# Altium footprint library WE-SI.PcbLib: 34 footprints (part 2 of 3)
Each footprint in its own frame and in the unit in brackets; x right, y up, seen from the top. Pads: shape width x height; smd on the part's side, far side on the other; paste and mask are expansions set on the pad; w line width, h text height; cw(c..) or ccw(c..) is an arc to the next point about the centre after c.
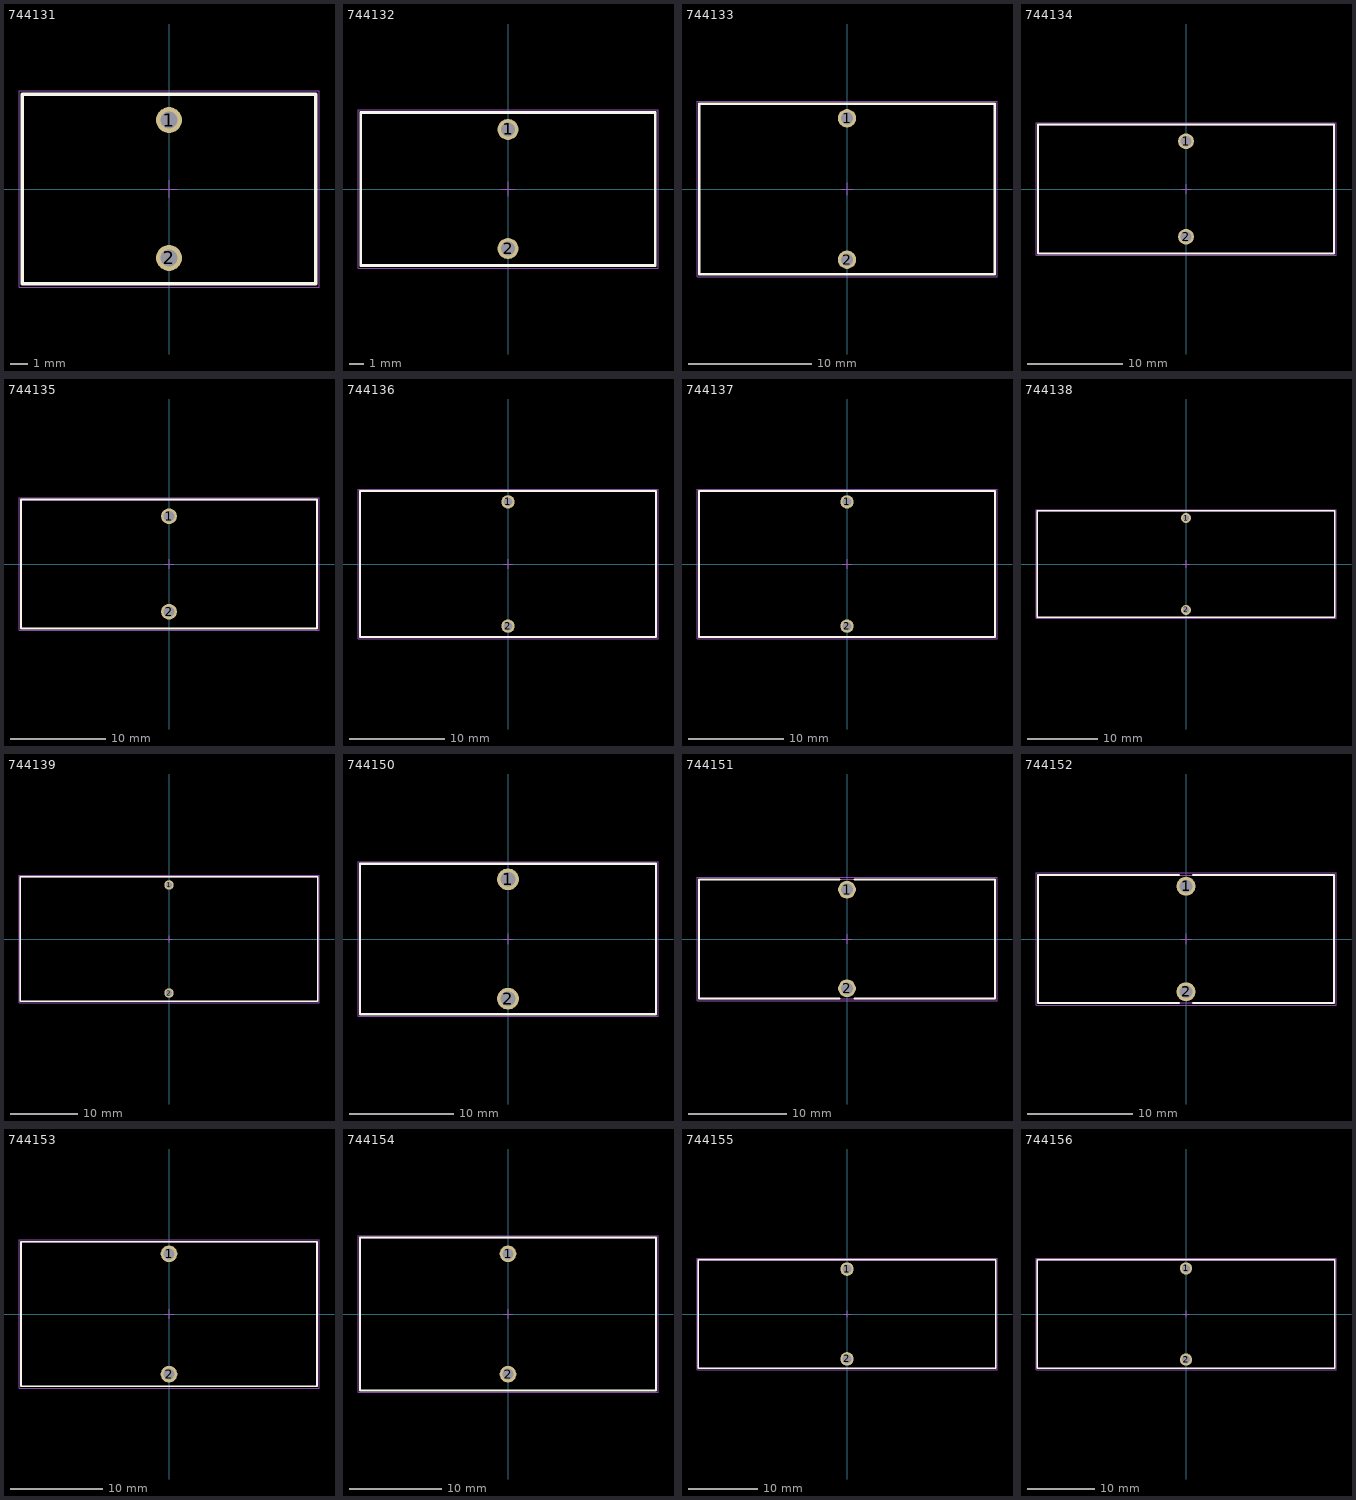
[diagram p1: the footprints below, top view; thin cyan lines are the x and y axes]

## 744131 [mm] "THT Leaded Toroidal Storage Choke, body 17x11mm"
height 17
pads (2):
  round 1.5 hole 1: 1(0,4) 2(0,-4)
Top Overlay:
  lines w0.2: -8.5,-5.5 8.5,-5.5 8.5,5.5 -8.5,5.5 -8.5,-5.5
Top Designator:
  text ".Designator" at -7.498,-0.5 h1.5
Top Component Outline:
  lines w0.1: -8.5,-5.5 8.5,-5.5 8.5,5.5 -8.5,5.5 -8.5,-5.5
Top 3D Body:
  lines w0.1: -8.5,-5.5 -8.5,5.5 8.5,5.5 8.5,-5.5 -8.5,-5.5
Top Courtyard:
  lines w0.05: -0.5,0 0.5,0 ; 0,-0.5 0,0.5 ; -8.7,-5.7 8.7,-5.7 8.7,5.7 -8.7,5.7 -8.7,-5.7
3D body "744131.stp": height 14.26, standoff -11.92, extent -7.26,-4.399 7.26,4.399

## 744132 [mm] "THT Leaded Toroidal Storage Choke, body 21x10.9mm"
height 21
pads (2):
  round 1.5 hole 1: 1(0,4.25) 2(0,-4.25)
Top Overlay:
  lines w0.2: -10.5,-5.45 -10.5,5.45 10.5,5.45 10.5,-5.45 -10.5,-5.45
Top Designator:
  text ".Designator" at -7.498,-0.5 h1.5
Top Component Outline:
  lines w0.1: -10.5,-5.45 10.5,-5.45 10.5,5.45 -10.5,5.45 -10.5,-5.45
Top 3D Body:
  lines w0.1: -10.5,-5.45 -10.5,5.45 10.5,5.45 10.5,-5.45 -10.5,-5.45
Top Courtyard:
  lines w0.05: -0.5,0 0.5,0 ; 0,-0.5 0,0.5 ; -10.7,-5.65 10.7,-5.65 10.7,5.65 -10.7,5.65 -10.7,-5.65
3D body "744132.stp": height 18.91, standoff -11.96, extent -9.658,-4.649 9.659,4.649

## 744133 [mm] "THT Leaded Toroidal Storage Choke, body 24x13mm"
height 24
pads (2):
  round 1.5 hole 1: 1(0,5.75) 2(0,-5.75)
Top Overlay:
  lines w0.2: -12,-6.95 -12,6.95 12,6.95 12,-6.95 -12,-6.95
Top Designator:
  text ".Designator" at -7.498,-0.5 h1.5
Top Component Outline:
  lines w0.1: -12,-6.95 -12,6.95 12,6.95 12,-6.95 -12,-6.95
Top 3D Body:
  lines w0.1: -12,-6.95 12,-6.95 12,6.95 -12,6.95 -12,-6.95
Top Courtyard:
  lines w0.05: -0.5,0 0.5,0 ; 0,-0.5 0,0.5 ; -12.2,-7.15 -12.2,7.15 12.2,7.15 12.2,-7.15 -12.2,-7.15
3D body "744133.stp": height 21.81, standoff -11.85, extent -11.01,-6.149 11.01,6.149

## 744134 [mm] "THT Leaded Toroidal Storage Choke, body 31x13.5mm"
height 31
pads (2):
  round 1.65 hole 1.1: 1(0,5) 2(0,-5)
Top Overlay:
  lines w0.2: -15.5,-6.75 15.5,-6.75 15.5,6.75 -15.5,6.75 -15.5,-6.75
Top Designator:
  text ".Designator" at -7.498,-0.5 h1.5
Top Component Outline:
  lines w0.1: -15.5,-6.75 15.5,-6.75 15.5,6.75 -15.5,6.75 -15.5,-6.75
Top 3D Body:
  lines w0.1: -15.5,-6.75 -15.5,6.75 15.5,6.75 15.5,-6.75 -15.5,-6.75
Top Courtyard:
  lines w0.05: -0.5,0 0.5,0 ; 0,-0.5 0,0.5 ; -15.7,-6.95 15.7,-6.95 15.7,6.95 -15.7,6.95 -15.7,-6.95
3D body "744134.stp": height 25.56, standoff -11.93, extent -12.959,-5.449 12.959,5.449

## 744135 [mm] "THT Leaded Toroidal Storage Choke, body 31x13.5mm"
height 31
pads (2):
  round 1.65 hole 1.1: 1(0,5) 2(0,-5)
Top Overlay:
  lines w0.2: -15.5,-6.75 -15.5,6.75 15.5,6.75 15.5,-6.75 -15.5,-6.75
Top Designator:
  text ".Designator" at -7.498,-0.5 h1.5
Top Component Outline:
  lines w0.1: -15.5,-6.75 -15.5,6.75 15.5,6.75 15.5,-6.75 -15.5,-6.75
Top 3D Body:
  lines w0.1: -15.5,-6.75 15.5,-6.75 15.5,6.75 -15.5,6.75 -15.5,-6.75
Top Courtyard:
  lines w0.05: -0.5,0 0.5,0 ; 0,-0.5 0,0.5 ; -15.7,-6.95 -15.7,6.95 15.7,6.95 15.7,-6.95 -15.7,-6.95
3D body "744135.stp": height 25.56, standoff -11.93, extent -12.959,-5.449 12.959,5.449

## 744136 [mm] "THT Leaded Toroidal Storage Choke, body 31x15.3mm"
height 31
pads (2):
  round 1.4 hole 0.9: 1(0,6.5) 2(0,-6.5)
Top Overlay:
  lines w0.2: -15.5,-7.65 -15.5,7.65 15.5,7.65 15.5,-7.65 -15.5,-7.65
Top Designator:
  text ".Designator" at -7.498,-0.5 h1.5
Top Component Outline:
  lines w0.1: -15.5,-7.65 -15.5,7.65 15.5,7.65 15.5,-7.65 -15.5,-7.65
Top 3D Body:
  lines w0.1: -15.5,-7.65 15.5,-7.65 15.5,7.65 -15.5,7.65 -15.5,-7.65
Top Courtyard:
  lines w0.05: -0.5,0 0.5,0 ; 0,-0.5 0,0.5 ; -15.7,-7.85 -15.7,7.85 15.7,7.85 15.7,-7.85 -15.7,-7.85
3D body "744136.stp": height 28.36, standoff -11.95, extent -14.258,-6.849 14.259,6.849

## 744137 [mm] "THT Leaded Toroidal Storage Choke, body 31x15.3mm"
height 31
pads (2):
  round 1.4 hole 0.9: 1(0,6.5) 2(0,-6.5)
Top Overlay:
  lines w0.2: -15.5,-7.65 15.5,-7.65 15.5,7.65 -15.5,7.65 -15.5,-7.65
Top Designator:
  text ".Designator" at -7.498,-0.5 h1.5
Top Component Outline:
  lines w0.1: -15.5,-7.65 15.5,-7.65 15.5,7.65 -15.5,7.65 -15.5,-7.65
Top 3D Body:
  lines w0.1: -15.5,-7.65 -15.5,7.65 15.5,7.65 15.5,-7.65 -15.5,-7.65
Top Courtyard:
  lines w0.05: -0.5,0 0.5,0 ; 0,-0.5 0,0.5 ; -15.7,-7.85 15.7,-7.85 15.7,7.85 -15.7,7.85 -15.7,-7.85
3D body "744137.stp": height 28.36, standoff -11.95, extent -14.258,-6.849 14.259,6.849

## 744138 [mm] "THT Leaded Toroidal Storage Choke, body 42x15mm"
height 42
pads (2):
  round 1.4 hole 0.9: 1(0,6.5) 2(0,-6.5)
Top Overlay:
  lines w0.2: -21,-7.5 -21,7.5 21,7.5 21,-7.5 -21,-7.5
Top Designator:
  text ".Designator" at -7.498,-0.5 h1.5
Top Component Outline:
  lines w0.1: -21,-7.5 -21,7.5 21,7.5 21,-7.5 -21,-7.5
Top 3D Body:
  lines w0.1: -21,-7.5 21,-7.5 21,7.5 -21,7.5 -21,-7.5
Top Courtyard:
  lines w0.05: -0.5,0 0.5,0 ; 0,-0.5 0,0.5 ; -21.2,-7.7 -21.2,7.7 21.2,7.7 21.2,-7.7 -21.2,-7.7
3D body "744138.stp": height 39.81, standoff -11.91, extent -20.009,-6.849 20.008,6.849

## 744139 [mm] "THT Leaded Toroidal Storage Choke, body 44x18.5mm"
height 44
pads (2):
  round 1.4 hole 0.9: 1(0,8) 2(0,-8)
Top Overlay:
  lines w0.2: -22,-9.25 22,-9.25 22,9.25 -22,9.25 -22,-9.25
Top Designator:
  text ".Designator" at -7.498,-0.5 h1.5
Top Component Outline:
  lines w0.1: -22,-9.25 22,-9.25 22,9.25 -22,9.25 -22,-9.25
Top 3D Body:
  lines w0.1: -22,-9.25 -22,9.25 22,9.25 22,-9.25 -22,-9.25
Top Courtyard:
  lines w0.05: -0.5,0 0.5,0 ; 0,-0.5 0,0.5 ; -22.2,-9.45 22.2,-9.45 22.2,9.45 -22.2,9.45 -22.2,-9.45
3D body "744139.stp": height 41.26, standoff -11.95, extent -20.76,-8.349 20.759,8.349

## 744150 [mm] "THT Leaded Toroidal Storage Choke, body 28.5x14.5mm"
height 28.5
pads (2):
  round 2.1 hole 1.4: 1(0,5.75) 2(0,-5.75)
Top Overlay:
  lines w0.2: -14.25,-7.25 14.25,-7.25 14.25,7.25 -14.25,7.25 -14.25,-7.25
Top Designator:
  text ".Designator" at -7.498,-0.5 h1.5
Top Component Outline:
  lines w0.1: -14.25,-7.25 -14.25,7.25 14.25,7.25 14.25,-7.25 -14.25,-7.25
Top 3D Body:
  lines w0.1: -14.25,-7.25 14.25,-7.25 14.25,7.25 -14.25,7.25 -14.25,-7.25
Top Courtyard:
  lines w0.05: -0.5,0 0.5,0 ; 0,-0.5 0,0.5 ; -14.45,-7.45 -14.45,7.45 14.45,7.45 14.45,-7.45 -14.45,-7.45
3D body "744150.stp": height 24.96, standoff -11.96, extent -12.76,-6.349 12.759,6.349

## 744151 [mm] "THT Leaded Toroidal Storage Choke, body 30x12.1mm"
height 30
pads (2):
  round 1.8 hole 1.2: 1(0,5) 2(0,-5)
Top Overlay:
  lines w0.2: -0.75,-6.05 -15,-6.05 -15,6.05 -0.75,6.05 ; 0.75,-6.05 15,-6.05 15,6.05 0.75,6.05
Top Designator:
  text ".Designator" at -7.498,-0.5 h1.5
Top Component Outline:
  lines w0.1: -15,-6.05 15,-6.05 15,6.05 -15,6.05 -15,-6.05
Top 3D Body:
  lines w0.1: -15,-6.05 -15,6.05 15,6.05 15,-6.05 -15,-6.05
Top Courtyard:
  lines w0.05: -0.5,0 0.5,0 ; 0,-0.5 0,0.5 ; -15.2,-6.25 15.2,-6.25 15.2,6.25 -15.2,6.25 -15.2,-6.25
3D body "744151.stp": height 25.56, standoff -11.95, extent -13.06,-5.499 13.059,5.499

## 744152 [mm] "THT Leaded Toroidal Storage Choke, body 28x12.1mm"
height 28
pads (2):
  round 1.8 hole 1.2: 1(0,5) 2(0,-5)
Top Overlay:
  lines w0.2: -0.65,-6.05 -14,-6.05 -14,6.05 -0.65,6.05 ; 0.65,-6.05 14,-6.05 14,6.05 0.65,6.05
Top Designator:
  text ".Designator" at -7.498,-0.5 h1.5
Top Component Outline:
  lines w0.1: -14,-6.05 -14,6.05 14,6.05 14,-6.05 -14,-6.05
Top 3D Body:
  lines w0.1: -14,-6.05 14,-6.05 14,6.05 -14,6.05 -14,-6.05
Top Courtyard:
  lines w0.05: -0.5,0 0.5,0 ; 0,-0.5 0,0.5 ; -14.2,-6.25 -14.2,6.25 14.2,6.25 14.2,-6.25 -14.2,-6.25
3D body "744152.stp": height 25.56, standoff -11.95, extent -13.06,-5.499 13.059,5.499

## 744153 [mm] "THT Leaded Toroidal Storage Choke, body 32x15.6mm"
height 32
pads (2):
  round 1.8 hole 1.2: 1(0,6.5) 2(0,-6.5)
Top Overlay:
  lines w0.2: -16,-7.8 -16,7.8 16,7.8 16,-7.8 -16,-7.8
Top Designator:
  text ".Designator" at -7.498,-0.5 h1.5
Top Component Outline:
  lines w0.1: -16,-7.8 16,-7.8 16,7.8 -16,7.8 -16,-7.8
Top 3D Body:
  lines w0.1: -16,-7.8 -16,7.8 16,7.8 16,-7.8 -16,-7.8
Top Courtyard:
  lines w0.05: -0.5,0 0.5,0 ; 0,-0.5 0,0.5 ; -16.2,-8 16.2,-8 16.2,8 -16.2,8 -16.2,-8
3D body "744153.stp": height 28.66, standoff -11.98, extent -14.557,-6.999 14.559,6.999

## 744154 [mm] "THT Leaded Toroidal Storage Choke, body 32x16.5mm"
height 32
pads (2):
  round 1.8 hole 1.2: 1(0,6.5) 2(0,-6.5)
Top Overlay:
  lines w0.2: -16,-8.25 -16,8.25 16,8.25 16,-8.25 -16,-8.25
Top Designator:
  text ".Designator" at -7.498,-0.5 h1.5
Top Component Outline:
  lines w0.1: -16,-8.25 16,-8.25 16,8.25 -16,8.25 -16,-8.25
Top 3D Body:
  lines w0.1: -16,-8.25 -16,8.25 16,8.25 16,-8.25 -16,-8.25
Top Courtyard:
  lines w0.05: -0.5,0 0.5,0 ; 0,-0.5 0,0.5 ; -16.2,-8.45 16.2,-8.45 16.2,8.45 -16.2,8.45 -16.2,-8.45
3D body "744154.stp": height 28.66, standoff -11.98, extent -14.557,-6.999 14.559,6.999

## 744155 [mm] "THT Leaded Toroidal Storage Choke, body 43x15.7mm"
height 43
pads (2):
  round 1.95 hole 1.3: 1(0,6.5) 2(0,-6.5)
Top Overlay:
  lines w0.2: -21.5,-7.85 21.5,-7.85 21.5,7.85 -21.5,7.85 -21.5,-7.85
Top Designator:
  text ".Designator" at -7.498,-0.5 h1.5
Top Component Outline:
  lines w0.1: -21.5,-7.85 21.5,-7.85 21.5,7.85 -21.5,7.85 -21.5,-7.85
Top 3D Body:
  lines w0.1: -21.5,-7.85 -21.5,7.85 21.5,7.85 21.5,-7.85 -21.5,-7.85
Top Courtyard:
  lines w0.05: -0.5,0 0.5,0 ; 0,-0.5 0,0.5 ; -21.7,-8.05 21.7,-8.05 21.7,8.05 -21.7,8.05 -21.7,-8.05
3D body "744155.stp": height 40.61, standoff -11.91, extent -20.406,-7.049 20.41,7.049

## 744156 [mm] "THT Leaded Toroidal Storage Choke, body 44x16.1mm"
height 44
pads (2):
  round 1.8 hole 1.2: 1(0,6.75) 2(0,-6.75)
Top Overlay:
  lines w0.2: -22,-8.05 22,-8.05 22,8.05 -22,8.05 -22,-8.05
Top Designator:
  text ".Designator" at -7.498,-0.5 h1.5
Top Component Outline:
  lines w0.1: -22,-8.05 22,-8.05 22,8.05 -22,8.05 -22,-8.05
Top 3D Body:
  lines w0.1: -22,-8.05 -22,8.05 22,8.05 22,-8.05 -22,-8.05
Top Courtyard:
  lines w0.05: -0.5,0 0.5,0 ; 0,-0.5 0,0.5 ; -22.2,-8.25 22.2,-8.25 22.2,8.25 -22.2,8.25 -22.2,-8.25
3D body "744156.stp": height 40.51, standoff -11.81, extent -20.309,-7.249 20.307,7.249